# Altium footprint library WIFI.PcbLib: 1 footprints
Each footprint in its own frame and in the unit in brackets; x right, y up, seen from the top. Pads: shape width x height; smd on the part's side, far side on the other; paste and mask are expansions set on the pad; w line width, h text height; cw(c..) or ccw(c..) is an arc to the next point about the centre after c.
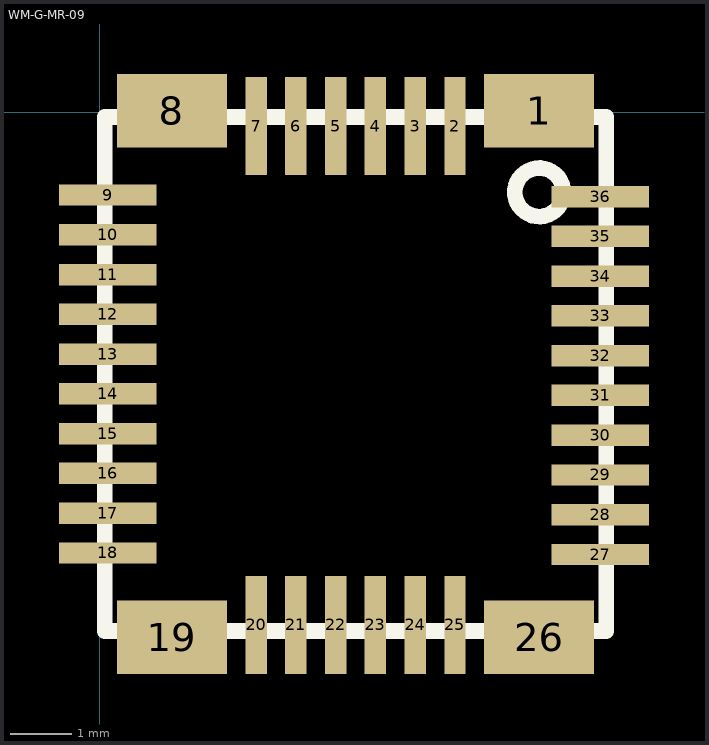
[diagram p0: the footprint, top view; thin cyan lines are the x and y axes]

## WM-G-MR-09 [mm]
pads (36):
  rect 1.8x1.2 smd: 1(7.18,0.023) 8(1.18,0.023) 19(1.18,-8.577) 26(7.18,-8.577)
  rect 0.35x1.6 smd: 2(5.805,-0.227) 3(5.155,-0.227) 4(4.505,-0.227) 5(3.855,-0.227) 6(3.205,-0.227) 7(2.555,-0.227) 20(2.555,-8.377) 21(3.205,-8.377) 22(3.855,-8.377) 23(4.505,-8.377) 24(5.155,-8.377) 25(5.805,-8.377)
  rect 1.6x0.35 smd: 9(0.13,-1.352) 10(0.13,-2.002) 11(0.13,-2.652) 12(0.13,-3.302) 13(0.13,-3.952) 14(0.13,-4.602) 15(0.13,-5.252) 16(0.13,-5.902) 17(0.13,-6.552) 18(0.13,-7.202) 27(8.18,-7.227) 28(8.18,-6.577) 29(8.18,-5.927) 30(8.18,-5.277) 31(8.18,-4.627) 32(8.18,-3.977) 33(8.18,-3.327) 34(8.18,-2.677) 35(8.18,-2.027) 36(8.18,-1.377)
Top Overlay:
  circle w0.254: c7.18,-1.307 r0.397
  lines w0.254: 0.08,-8.477 8.28,-8.477 8.28,-0.077 0.08,-0.077 0.08,-8.477